# EAGLE library part FE6-2 (library con-edge-156)
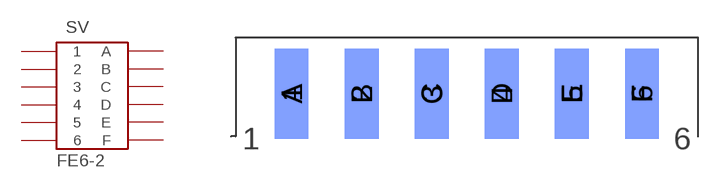
[diagram p3: symbol with the pads of FE6-2_SHORT; footprint FE6-2_SHORT]

Designator prefix SV

## FE6-2  [FE6-2_SHORT]
1  1  pas
2  2  pas
3  3  pas
4  4  pas
5  5  pas
6  6  pas
A  A  pas
B  B  pas
C  C  pas
D  D  pas
E  E  pas
F  F  pas

## Footprint FE6-2_SHORT (pad centres in mm)
smd 1.905 x 5.08: 1 -9.906,0; 2 -5.944,0; 3 -1.981,0; 4 1.981,0; 5 5.944,0; 6 9.906,0
smd 1.905 x 5.08 bottom: A -9.906,0; B -5.944,0; C -1.981,0; D 1.981,0; E 5.944,0; F 9.906,0